# Altium footprint library BMS_Devices.PcbLib: 136 footprints (part 1 of 9)
Each footprint in its own frame and in the unit in brackets; x right, y up, seen from the top. Pads: shape width x height; smd on the part's side, far side on the other; paste and mask are expansions set on the pad; w line width, h text height; cw(c..) or ccw(c..) is an arc to the next point about the centre after c.
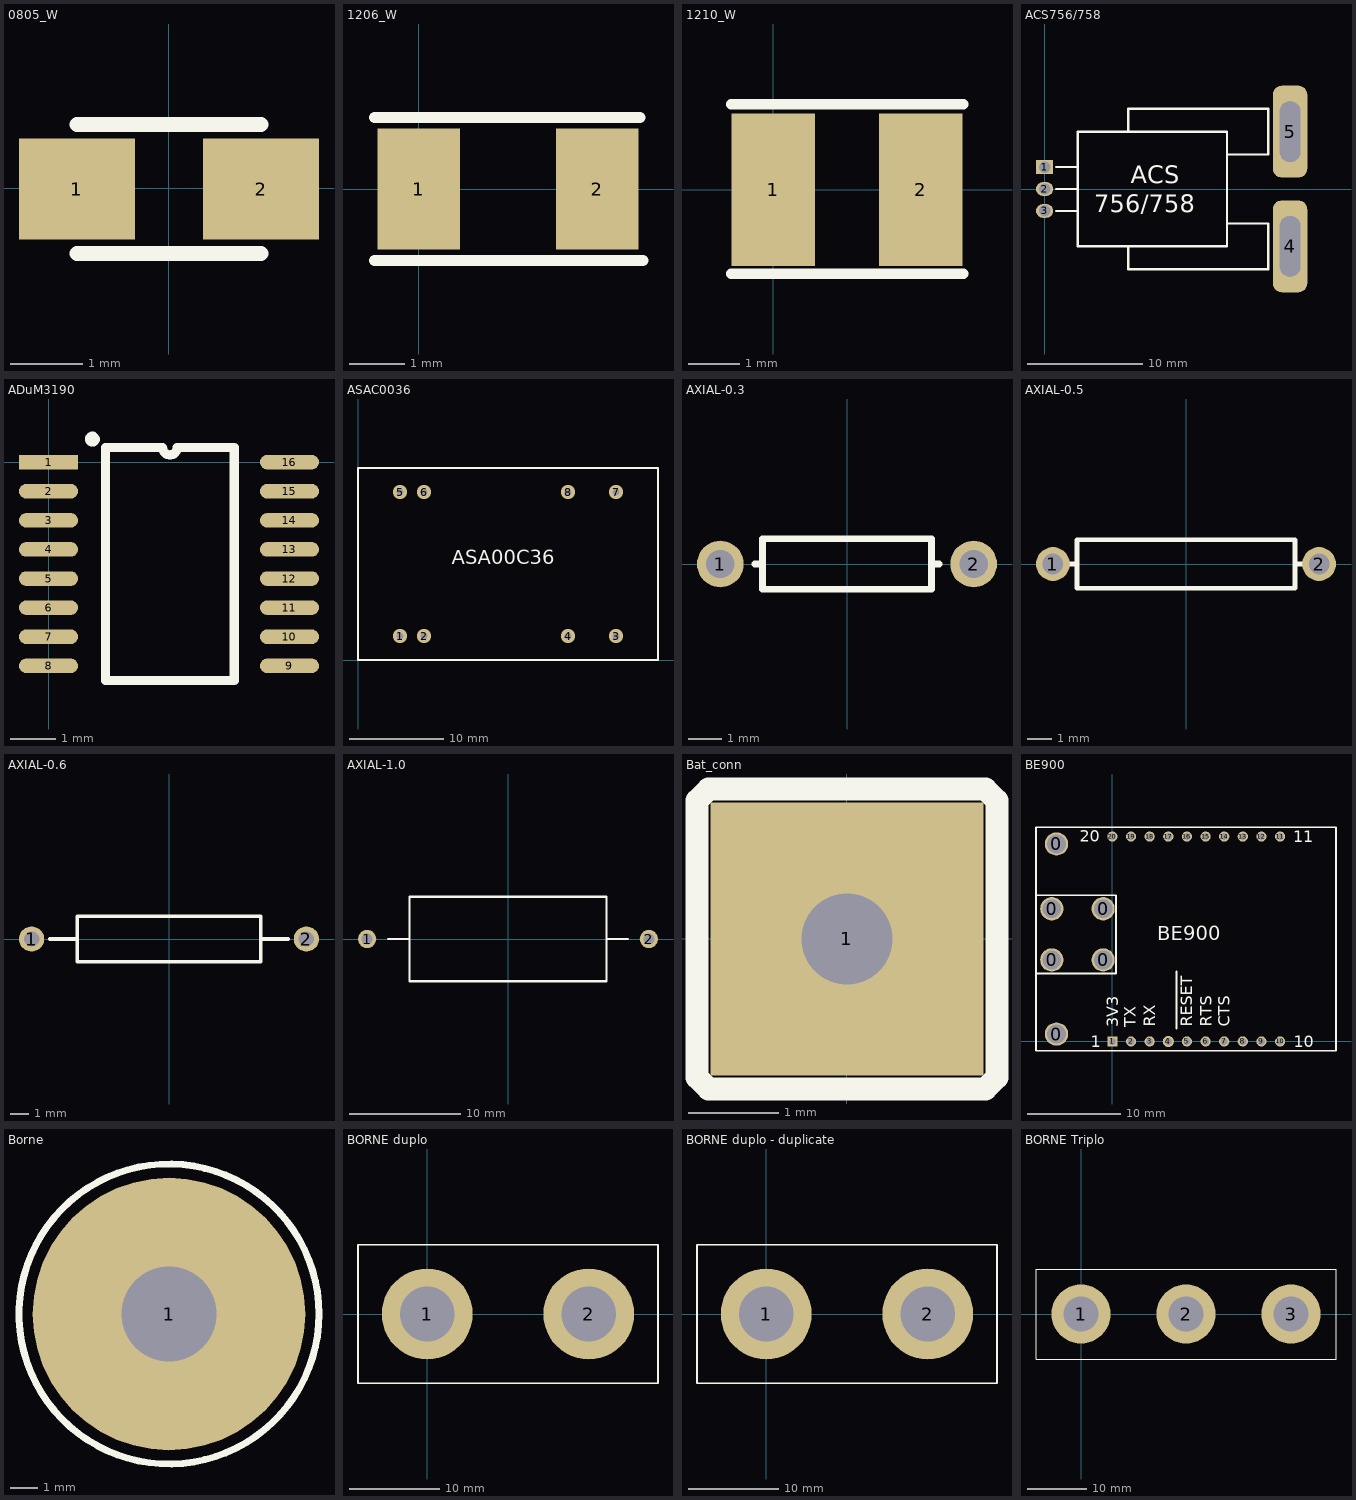
[diagram p0: the footprints below, top view; thin cyan lines are the x and y axes]

## 0805_W [mm]
pads (2):
  rect 1.6x1.397 smd: 1(-1.263,-0.009) 2(1.277,-0.009)
Top Overlay:
  lines w0.203: -1.263,-0.898 1.277,-0.898 ; -1.263,0.88 1.277,0.88

## 1206_W [mm]
pads (2):
  rect 1.5x2.2 smd: 1(0,0) 2(3.244,0)
Top Overlay:
  lines w0.203: -0.8,-1.3 4.07,-1.3 ; -0.8,1.3 4.019,1.3

## 1210_W [mm]
pads (2):
  rect 1.65x3 smd: 1(0,0) 2(2.9,0)
Top Overlay:
  lines w0.203: -0.825,-1.656 3.74,-1.656 ; -0.825,1.681 3.74,1.681

## ACS756/758 [mm]
pads (5):
  rect 1.5x1.2 hole 1: 1(0,1.91)
  oval 1.5x1.2 hole 1: 2(0,0) 3(0,-1.91)
  rrect50% 3x8 hole 1.8 slot 5.3 at 90 deg: 4(21.4,-5) 5(21.4,5)
Top Overlay:
  lines w0.2: 1,-1.91 2.9,-1.91 ; 1,0 2.9,0 ; 1,1.91 2.9,1.91 ; 7.3,-5 7.3,-7 19.5,-7 19.5,-3 15.9,-3 ; 7.3,5 7.3,7 19.5,7 19.5,3 15.9,3 ; 2.9,-5 15.9,-5 15.9,5 2.9,5 2.9,-5
  text "756/758" at 4.318,-2.032 h1.52
  text "ACS" at 7.493,0.508 h1.52
3D body: height 5, standoff 0, extent 2.901,-4.999 15.899,4.999
3D body: height 2, standoff 1, extent 7.301,-6.999 19.499,-3.001
3D body: height 2, standoff 1, extent 7.301,3.001 19.499,6.999

## ADuM3190 [mm]
pads (16):
  rect 1.3x0.32 smd paste+0 mask+0.05: 1(0,0)
  oval 1.3x0.32 smd mask+0.05: 2(0,-0.64) 3(0,-1.28) 4(0,-1.92) 5(0,-2.56) 6(0,-3.2) 7(0,-3.84) 8(0,-4.48) 9(5.3,-4.48) 10(5.3,-3.84) 11(5.3,-3.2) 12(5.3,-2.56) 13(5.3,-1.92) 14(5.3,-1.28) 15(5.3,-0.64) 16(5.3,0)
Top Overlay:
  lines w0.2: 1.255,-4.8 4.085,-4.8 4.085,0.32 2.83,0.32 cw(c2.67,0.32) 2.51,0.32 1.255,0.32 1.255,-4.8
  lines w0.254: 0.977,0.542 ccw(c0.965,0.508) 1.001,0.508

## ASAC0036 [mil]
pads (8):
  round 60 hole 30: 1(175,100) 2(275,100) 3(1075,100) 4(875,100) 5(175,700) 6(275,700) 7(1075,700) 8(875,700)
Top Overlay:
  lines w10: 275,690 275,710 ; 0,0 1250,0 1250,800 0,800 0,0
  text "ASA00C36" at 390,400 h60

## AXIAL-0.3 [mm] "Axial Device, Thru-Hole; 2 Leads; 0.3 in Pin Spacing"
height 1.524
pads (2):
  round 1.4 hole 0.85: 1(-3.81,0) 2(3.81,0)
Top Overlay:
  lines w0.2: -2.769,0 -2.54,0 ; 2.769,0 2.54,0 ; 2.54,0 2.54,-0.762 -2.54,-0.762 -2.54,0.762 2.54,0.762 2.54,0

## AXIAL-0.5 [mm] "Axial Device, Thru-Hole; 2 Leads; 0.5 in Pin Spacing"
height 2.54
pads (2):
  round 1.4 hole 0.85: 1(-5.5,0) 2(5.5,0)
Top Overlay:
  lines w0.2: -5,0 -4.5,0 ; 4.5,0 5,0 ; -4.5,-1 -4.5,1 4.5,1 4.5,-1 -4.5,-1
3D body: height 2.54, standoff 0, extent -4.499,-0.999 4.499,0.999

## AXIAL-0.6 [mm] "Axial Device, Thru-Hole; 2 Leads; 0.6 in Pin Spacing"
height 2.54
pads (2):
  round 1.4 hole 0.85: 1(-7.62,0) 2(7.62,0)
Top Overlay:
  lines w0.2: -6.604,0 -5.08,0 ; 5.08,0 6.604,0 ; -5.08,-1.27 5.08,-1.27 5.08,1.27 -5.08,1.27 -5.08,-1.27

## AXIAL-1.0 [mm] "Axial Device, Thru-Hole; 2 Leads; 1.0 in Pin Spacing"
height 7.62
pads (2):
  round 1.65 hole 1: 1(-12.7,0) 2(12.7,0)
Top Overlay:
  lines w0.2: -10.795,0 -8.89,0 ; 8.89,0 10.795,0 ; -8.89,-3.81 8.89,-3.81 8.89,3.81 -8.89,3.81 -8.89,-3.81

## Bat_conn [mm]
pads (1):
  rect 3x3 / inner rect 3x3 / far side round 1.6 hole 1: 1(0,0)
Top Overlay:
  lines w0.254: -1.651,-1.524 -1.524,-1.651 1.524,-1.651 1.651,-1.524 1.651,1.524 1.524,1.651 -1.397,1.651 -1.524,1.651 -1.651,1.524 -1.651,-1.524

## BE900 [mm] "RadioIT BE900 Radio Transmitter"
pads (26):
  round 2.5 hole 2: 0(-6.5,8.75) 0(-6.5,14.25) 0(-6,0.8) 0(-6,21.2) 0(-1,8.75) 0(-1,14.25)
  rect 1.1x1.1 hole 0.75: 1(0,0)
  round 1.1 hole 0.75: 2(2,0) 3(4,0) 5(8,0) 6(10,0) 7(12,0) 8(14,0) 9(16,0) 10(18,0) 11(18,22) 12(16,22) 13(14,22) 14(12,22) 15(10,22) 16(8,22) 17(6,22) 18(4,22) 19(2,22) 20(0,22)
  round 1.2 hole 0.75: 4(6,0)
Top Overlay:
  lines w0.2: -8.2,7.3 0.4,7.3 0.4,15.7 -8.2,15.7 ; -8.2,-1 -8.2,23 24,23 24,-1 -8.2,-1
  lines w0.254: 6.883,1.397 6.883,7.518
  text "RESET" at 8.56,1.575 h1.27
  text "RTS" at 10.643,1.575 h1.27
  text "RX" at 4.597,1.6 h1.27
  text "TX" at 2.515,1.524 h1.27
  text "3V3" at 0.635,1.524 h1.27
  text "BE900" at 4.801,10.846 h1.52
  text "20" at -3.531,21.463 h1.27
  text "10" at 19.456,-0.61 h1.27
  text "1" at -2.311,-0.635 h1.27
  text "11" at 19.406,21.361 h1.27
  text "CTS" at 12.598,1.575 h1.27

## Borne [mm]
pads (1):
  round 10 on Top hole 3.5: 1(7.5,-9)
Top Overlay:
  circle w0.254: c7.5,-9 r5.5

## BORNE duplo [mm]
pads (2):
  round 10 hole 6: 1(0,0) 2(17.78,0)
Top Overlay:
  lines w0.2: -2.5,-2.5 0,-2.5 ; -2.5,2.5 0,2.5 ; -7.62,-7.62 -7.62,7.62 25.4,7.62 25.4,-7.62 -7.62,-7.62

## BORNE duplo - duplicate [mm]
pads (2):
  round 10 hole 6: 1(0,0) 2(17.78,0)
Top Overlay:
  lines w0.2: -2.5,-2.5 0,-2.5 ; -2.5,2.5 0,2.5 ; -7.62,-7.62 25.4,-7.62 25.4,7.62 -7.62,7.62 -7.62,-7.62

## BORNE Triplo [mm]
pads (3):
  round 10 hole 6: 1(0,0) 2(17.78,0) 3(35.56,0)
Top Overlay:
  lines w0.2: -2.5,-2.5 0,-2.5 ; -2.5,2.5 0,2.5 ; -7.62,-7.62 -7.62,7.62 43.18,7.62 43.18,-7.62 -7.62,-7.62